# EAGLE library part MCP4725 (library dawidkulpa_dev)
12-Bit Digital-to-Analog converter I2C up to 400kHz
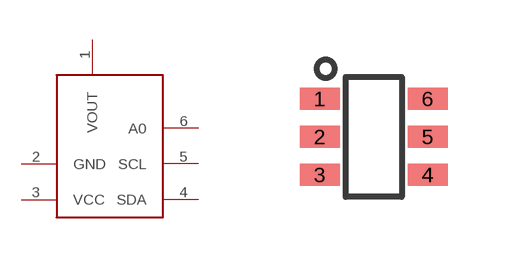
[diagram p16: symbol with the pads of SOT-23-6; footprint SOT-23-6]

Designator prefix -

## MCP4725  [SOT-23-6]
1  VOUT
2  GND
3  VCC
4  SDA
5  SCL
6  A0

## Footprint SOT-23-6 (pad centres in mm)
smd 1 x 0.55: 1 -1.35,0.95; 2 -1.35,0; 3 -1.35,-0.95; 4 1.35,-0.95; 5 1.35,0; 6 1.35,0.95